# Altium schematic symbol library VCNL3040.SchLib: 1 symbol
Pins are listed as number, name and electrical type; pins without a type are passive.

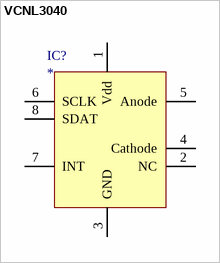
[diagram p0: symbol VCNL3040]

## VCNL3040
designator IC?
footprint VCNL3040
pins: 1 Vdd, 2 NC, 3 GND, 4 Cathode, 5 Anode, 6 SCLK, 7 INT, 8 SDAT